# EAGLE library part DS2782E+ (library maxim-cubic)
MAXIM DS2782 Stand Alone Fuel Guage IC TSOP-8
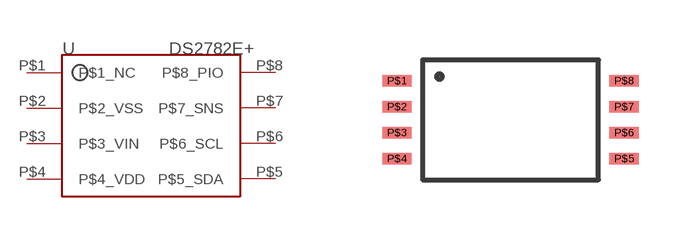
[diagram p0: symbol with the pads of TSOP-8; footprint TSOP-8]

Designator prefix -

## DS2782E+  [TSOP-8]
P$1  P$1_NC
P$2  P$2_VSS
P$3  P$3_VIN
P$4  P$4_VDD
P$5  P$5_SDA
P$6  P$6_SCL
P$7  P$7_SNS
P$8  P$8_PIO

## Footprint TSOP-8 (pad centres in mm)
Standard TSOP8 layout
smd 0.733 x 0.28: P$1 -2.841,0.975; P$2 -2.841,0.325; P$3 -2.841,-0.325; P$4 -2.841,-0.975; P$5 2.841,-0.975; P$6 2.841,-0.325; P$7 2.841,0.325; P$8 2.841,0.975